# Altium schematic symbol library 796136-1.SchLib: 1 symbol
Pins are listed as number, name and electrical type; pins without a type are passive.

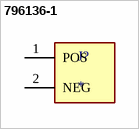
[diagram p0: symbol 796136-1]

## 796136-1
designator J?
BATTERY HOLDER COIN 20MM SMD; MP: 796136-1; MF: {'manufacturer': u'TE Connectivity'}; Package: None; Availability: Unavailable; Price: None; Value: *
footprint TE_796136-1
pins: 1 POS, 2 NEG